# Altium footprint library ATP48.PcbLib: 1 footprints
Each footprint in its own frame and in the unit in brackets; x right, y up, seen from the top. Pads: shape width x height; smd on the part's side, far side on the other; paste and mask are expansions set on the pad; w line width, h text height; cw(c..) or ccw(c..) is an arc to the next point about the centre after c.
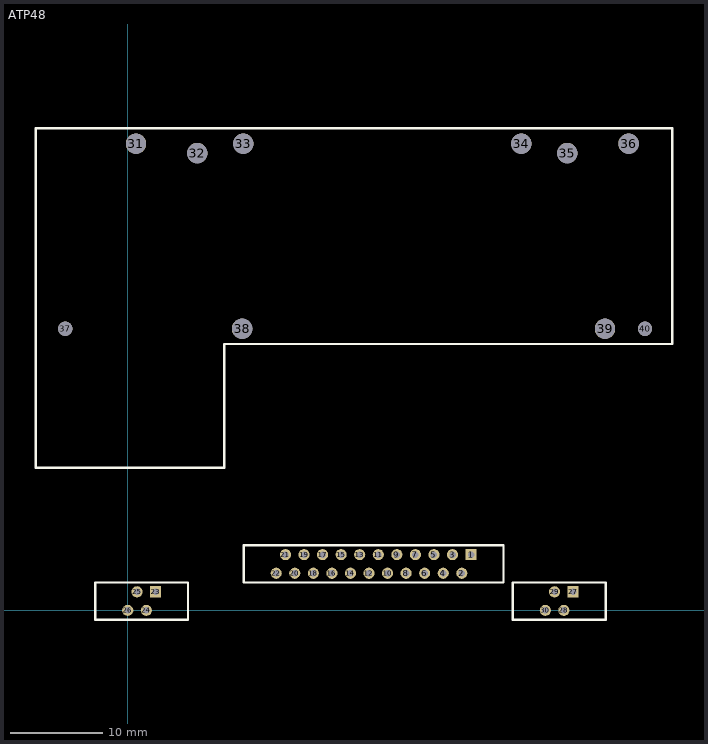
[diagram p0: the footprint, top view; thin cyan lines are the x and y axes]

## ATP48 [mm]
pads (40):
  rect 1.2x1.2 hole 0.7: 1(37,6) 23(3,2) 27(48,2)
  round 1.2 hole 0.7: 2(36,4) 3(35,6) 4(34,4) 5(33,6) 6(32,4) 7(31,6) 8(30,4) 9(29,6) 10(28,4) 11(27,6) 12(26,4) 13(25,6) 14(24,4) 15(23,6) 16(22,4) 17(21,6) 18(20,4) 19(19,6) 20(18,4) 21(17,6) 22(16,4) 24(2,0) 25(1,2) 26(0,0) 28(47,0) 29(46,2) 30(45,0)
  round 2.2 hole 2.2: 31(0.889,50.292) 32(7.493,49.276) 33(12.446,50.292) 34(42.418,50.292) 35(47.371,49.276) 36(53.975,50.292) 38(12.319,30.353) 39(51.435,30.353)
  round 1.524 hole 1.524: 37(-6.731,30.353) 40(55.753,30.353)
Top Overlay:
  lines w0.254: -9.906,15.367 -9.906,51.943 58.674,51.943 58.674,28.702 10.414,28.702 10.414,15.367 -9.906,15.367 ; -3.5,-1 -3.5,3 6.5,3 6.5,-1 -3.5,-1 ; 12.5,3 40.5,3 40.5,7 12.5,7 12.5,3 ; 41.5,-1 51.5,-1 51.5,3 41.5,3 41.5,-1